# Altium integrated library Silicon Labs Clocks and Oscillators.IntLib: 678 symbols (part 16 of 45)
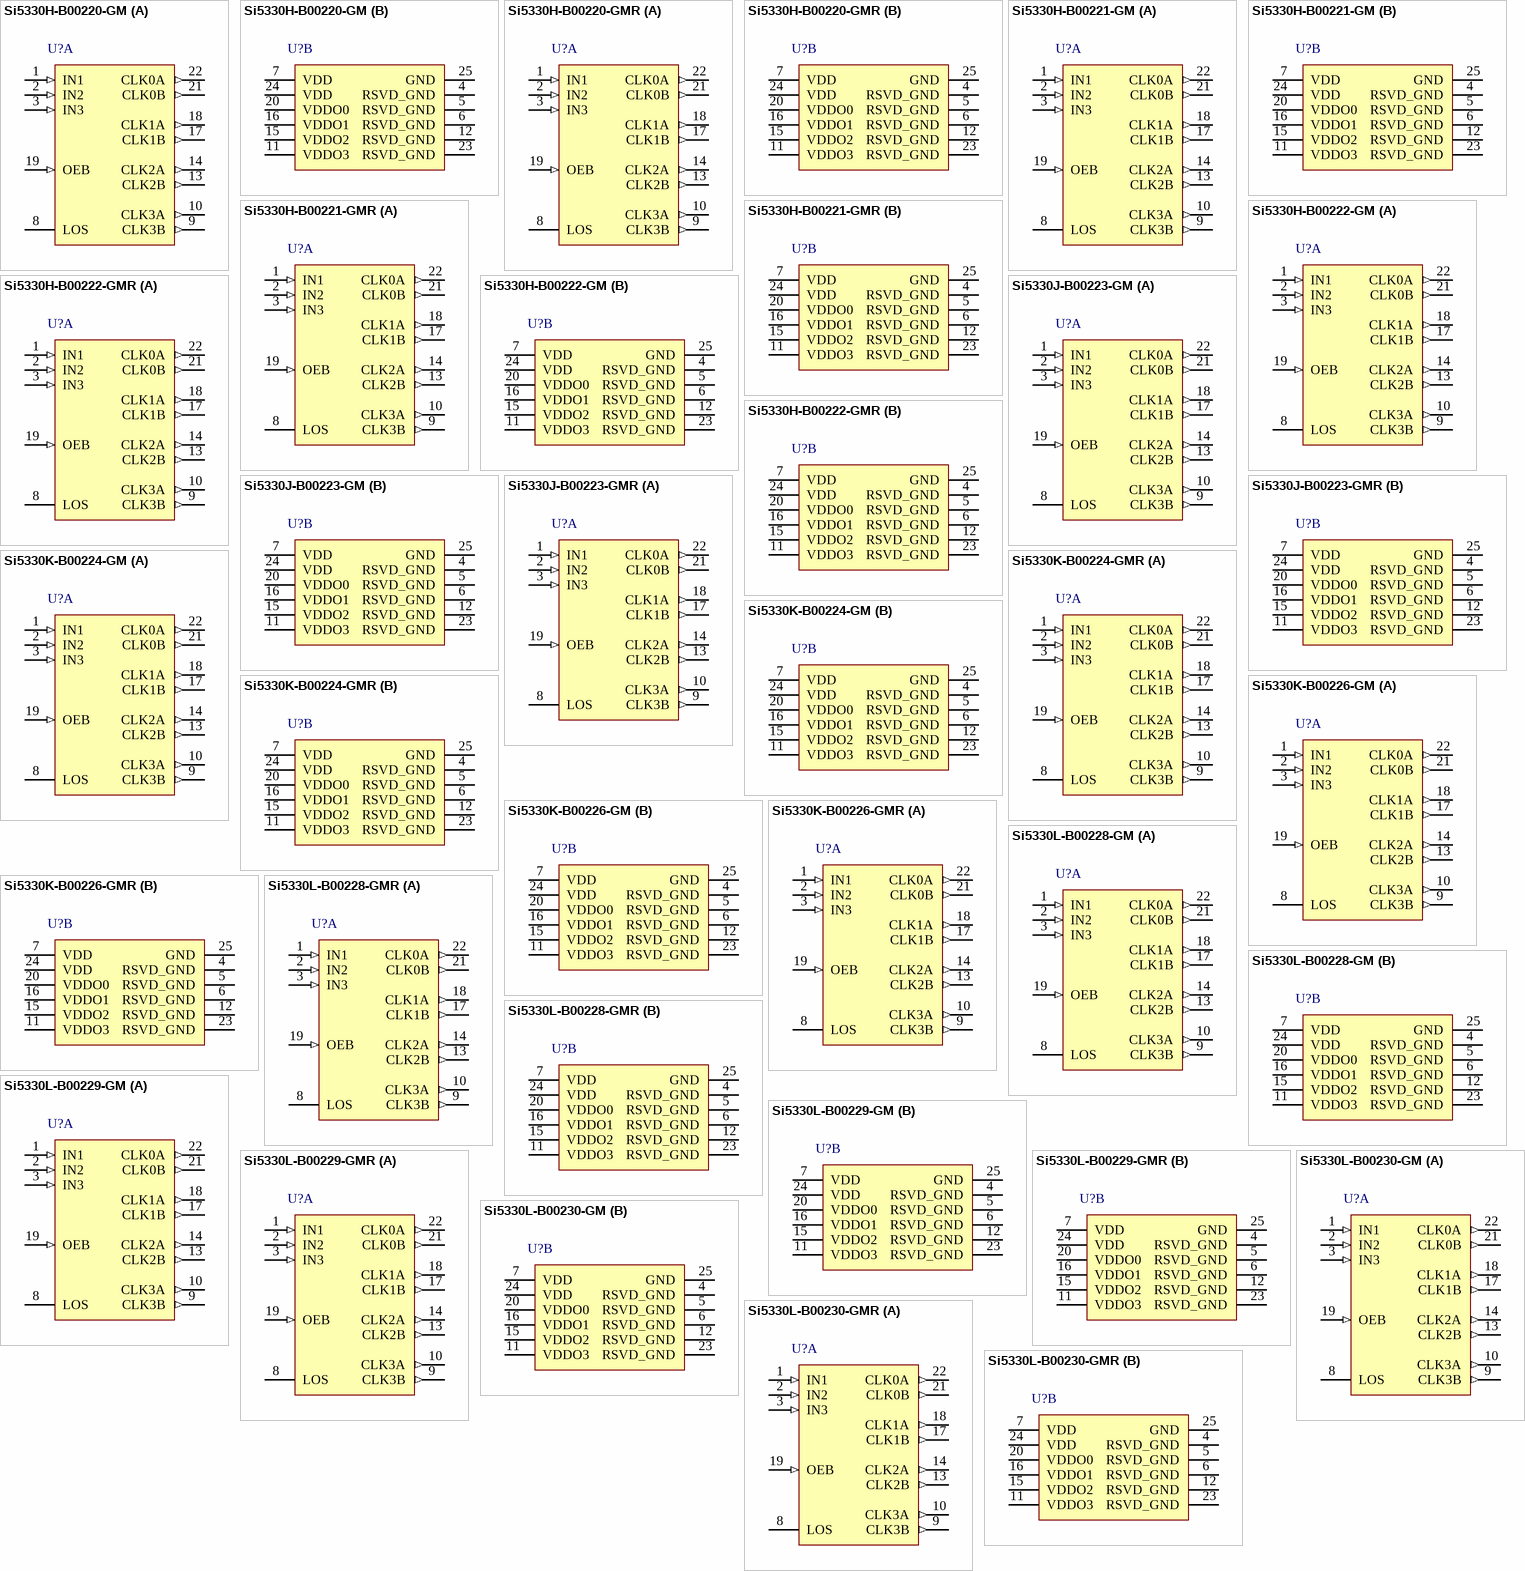
[diagram p59: symbols Si5330H-B00220-GM to Si5330L-B00230-GMR]

## Si5330J-B00223-GM
designator U?
1.5 V Low-Jitter, Low-Skew Clock Buffer / Level Translator, 5 to 350 MHz, -40 to 85 degC, 24-pin QFN; Manufacturer: Silicon Labs; PartNumber: Si5330J-B00223-GM; Frequency (MHz): 5 to 350; Output Format: HSTL; Sub-Family: Clock Buffers; DatasheetVersion: Rev. 1.1; PackageReference: QFN-24; PackageDescription: 24-Pin Quad-Flat No-Leads Package, Body 4 x 4 mm, Pitch 0.5 mm; Supplier 1: Digi-Key; Supplier Part Number 1: SI5330J-B00223-GM-ND; Supplier 2: Mouser; Supplier Part Number 2: 634-SI5330JB00223-GM; Mounting Technology: Surface Mount; Code_JEDEC: MO-220; Code_IPC: J-STD-020; ComponentLink1Description: Manufacturer URL; ComponentLink1URL: http://www.silabs.com/; ComponentLink2Description: Datasheet; ComponentLink2URL: http://www.silabs.com/Support%20Documents/TechnicalDocs/Si5330.pdf; ComponentLink3Description: Package Specification; ComponentLink3URL: http://www.silabs.com/Support%20Documents/TechnicalDocs/Si5330.pdf
footprint SLAB-QFN-24-2500x2500TP_N (QFN, 24-Leads, Body 4x4mm, Pitch 0.5mm, Thermal Pad 2.5x2.5mm, IPC Medium Density)
footprint SLAB-QFN-24-2500x2500TP_L (QFN, 24-Leads, Body 4x4mm, Pitch 0.5mm, Thermal Pad 2.5x2.5mm, IPC High Density)
footprint SLAB-QFN-24-2500x2500TP_M (QFN, 24-Leads, Body 4x4mm, Pitch 0.5mm, Thermal Pad 2.5x2.5mm, IPC Low Density)
part A pins: 1 IN1 (in), 2 IN2 (in), 3 IN3 (in), 8 LOS (oc) "Loss of Signal Indicator.", 9 CLK3B (out), 10 CLK3A (out), 13 CLK2B (out), 14 CLK2A (out), 17 CLK1B (out), 18 CLK1A (out), 19 OEB (in) "Output Enable.", 21 CLK0B (out), 22 CLK0A (out)
part B pins: 4 RSVD_GND (power) "Ground.", 5 RSVD_GND (power) "Ground.", 6 RSVD_GND (power) "Ground.", 7 VDD (power) "Core Supply Voltage.", 11 VDDO3 (power) "Output Clock Supply Voltage.", 12 RSVD_GND (power) "Ground.", 15 VDDO2 (power) "Output Clock Supply Voltage.", 16 VDDO1 (power) "Output Clock Supply Voltage.", 20 VDDO0 (power) "Output Clock Supply Voltage.", 23 RSVD_GND (power) "Ground.", 24 VDD (power) "Core Supply Voltage.", 25 GND (power) "Ground Pad."

## Si5330J-B00223-GMR
designator U?
1.5 V Low-Jitter, Low-Skew Clock Buffer / Level Translator, 5 to 350 MHz, -40 to 85 degC, 24-pin QFN, Tape and Reel; Manufacturer: Silicon Labs; PartNumber: Si5330J-B00223-GMR; Frequency (MHz): 5 to 350; Output Format: HSTL; Sub-Family: Clock Buffers; DatasheetVersion: Rev. 1.1; PackageReference: QFN-24; PackageDescription: 24-Pin Quad-Flat No-Leads Package, Body 4 x 4 mm, Pitch 0.5 mm; Supplier 1: Digi-Key; Supplier Part Number 1: SI5330J-B00223-GMR-ND; Supplier 2: Mouser; Supplier Part Number 2: 634-SI5330JB00223GMR; Packing: Tape and Reel; Mounting Technology: Surface Mount; Code_JEDEC: MO-220; Code_IPC: J-STD-020; ComponentLink1Description: Manufacturer URL; ComponentLink1URL: http://www.silabs.com/; ComponentLink2Description: Datasheet; ComponentLink2URL: http://www.silabs.com/Support%20Documents/TechnicalDocs/Si5330.pdf; ComponentLink3Description: Package Specification; ComponentLink3URL: http://www.silabs.com/Support%20Documents/TechnicalDocs/Si5330.pdf
footprint SLAB-QFN-24-2500x2500TP_N (QFN, 24-Leads, Body 4x4mm, Pitch 0.5mm, Thermal Pad 2.5x2.5mm, IPC Medium Density)
footprint SLAB-QFN-24-2500x2500TP_L (QFN, 24-Leads, Body 4x4mm, Pitch 0.5mm, Thermal Pad 2.5x2.5mm, IPC High Density)
footprint SLAB-QFN-24-2500x2500TP_M (QFN, 24-Leads, Body 4x4mm, Pitch 0.5mm, Thermal Pad 2.5x2.5mm, IPC Low Density)
part A pins: 1 IN1 (in), 2 IN2 (in), 3 IN3 (in), 8 LOS (oc) "Loss of Signal Indicator.", 9 CLK3B (out), 10 CLK3A (out), 13 CLK2B (out), 14 CLK2A (out), 17 CLK1B (out), 18 CLK1A (out), 19 OEB (in) "Output Enable.", 21 CLK0B (out), 22 CLK0A (out)
part B pins: 4 RSVD_GND (power) "Ground.", 5 RSVD_GND (power) "Ground.", 6 RSVD_GND (power) "Ground.", 7 VDD (power) "Core Supply Voltage.", 11 VDDO3 (power) "Output Clock Supply Voltage.", 12 RSVD_GND (power) "Ground.", 15 VDDO2 (power) "Output Clock Supply Voltage.", 16 VDDO1 (power) "Output Clock Supply Voltage.", 20 VDDO0 (power) "Output Clock Supply Voltage.", 23 RSVD_GND (power) "Ground.", 24 VDD (power) "Core Supply Voltage.", 25 GND (power) "Ground Pad."

## Si5330K-B00224-GM
designator U?
3.3 V Low-Jitter, Low-Skew Clock Buffer / Level Translator, 5 to 350 MHz, -40 to 85 degC, 24-pin QFN; Manufacturer: Silicon Labs; PartNumber: Si5330K-B00224-GM; Frequency (MHz): 5 to 350; Output Format: LVPECL; Sub-Family: Clock Buffers; DatasheetVersion: Rev. 1.1; PackageReference: QFN-24; PackageDescription: 24-Pin Quad-Flat No-Leads Package, Body 4 x 4 mm, Pitch 0.5 mm; Supplier 1: Digi-Key; Supplier Part Number 1: SI5330K-B00224-GM-ND; Supplier 2: Mouser; Supplier Part Number 2: 634-SI5330KB00224-GM; Mounting Technology: Surface Mount; Code_JEDEC: MO-220; Code_IPC: J-STD-020; ComponentLink1Description: Manufacturer URL; ComponentLink1URL: http://www.silabs.com/; ComponentLink2Description: Datasheet; ComponentLink2URL: http://www.silabs.com/Support%20Documents/TechnicalDocs/Si5330.pdf; ComponentLink3Description: Package Specification; ComponentLink3URL: http://www.silabs.com/Support%20Documents/TechnicalDocs/Si5330.pdf
footprint SLAB-QFN-24-2500x2500TP_N (QFN, 24-Leads, Body 4x4mm, Pitch 0.5mm, Thermal Pad 2.5x2.5mm, IPC Medium Density)
footprint SLAB-QFN-24-2500x2500TP_L (QFN, 24-Leads, Body 4x4mm, Pitch 0.5mm, Thermal Pad 2.5x2.5mm, IPC High Density)
footprint SLAB-QFN-24-2500x2500TP_M (QFN, 24-Leads, Body 4x4mm, Pitch 0.5mm, Thermal Pad 2.5x2.5mm, IPC Low Density)
part A pins: 1 IN1 (in), 2 IN2 (in), 3 IN3 (in), 8 LOS (oc) "Loss of Signal Indicator.", 9 CLK3B (out), 10 CLK3A (out), 13 CLK2B (out), 14 CLK2A (out), 17 CLK1B (out), 18 CLK1A (out), 19 OEB (in) "Output Enable.", 21 CLK0B (out), 22 CLK0A (out)
part B pins: 4 RSVD_GND (power) "Ground.", 5 RSVD_GND (power) "Ground.", 6 RSVD_GND (power) "Ground.", 7 VDD (power) "Core Supply Voltage.", 11 VDDO3 (power) "Output Clock Supply Voltage.", 12 RSVD_GND (power) "Ground.", 15 VDDO2 (power) "Output Clock Supply Voltage.", 16 VDDO1 (power) "Output Clock Supply Voltage.", 20 VDDO0 (power) "Output Clock Supply Voltage.", 23 RSVD_GND (power) "Ground.", 24 VDD (power) "Core Supply Voltage.", 25 GND (power) "Ground Pad."

## Si5330K-B00224-GMR
designator U?
3.3 V Low-Jitter, Low-Skew Clock Buffer / Level Translator, 5 to 350 MHz, -40 to 85 degC, 24-pin QFN, Tape and Reel; Manufacturer: Silicon Labs; PartNumber: Si5330K-B00224-GMR; Frequency (MHz): 5 to 350; Output Format: LVPECL; Sub-Family: Clock Buffers; DatasheetVersion: Rev. 1.1; PackageReference: QFN-24; PackageDescription: 24-Pin Quad-Flat No-Leads Package, Body 4 x 4 mm, Pitch 0.5 mm; Supplier 1: Digi-Key; Supplier Part Number 1: SI5330K-B00224-GMR-ND; Supplier 2: Mouser; Supplier Part Number 2: 634-SI5330KB00224GMR; Packing: Tape and Reel; Mounting Technology: Surface Mount; Code_JEDEC: MO-220; Code_IPC: J-STD-020; ComponentLink1Description: Manufacturer URL; ComponentLink1URL: http://www.silabs.com/; ComponentLink2Description: Datasheet; ComponentLink2URL: http://www.silabs.com/Support%20Documents/TechnicalDocs/Si5330.pdf; ComponentLink3Description: Package Specification; ComponentLink3URL: http://www.silabs.com/Support%20Documents/TechnicalDocs/Si5330.pdf
footprint SLAB-QFN-24-2500x2500TP_N (QFN, 24-Leads, Body 4x4mm, Pitch 0.5mm, Thermal Pad 2.5x2.5mm, IPC Medium Density)
footprint SLAB-QFN-24-2500x2500TP_L (QFN, 24-Leads, Body 4x4mm, Pitch 0.5mm, Thermal Pad 2.5x2.5mm, IPC High Density)
footprint SLAB-QFN-24-2500x2500TP_M (QFN, 24-Leads, Body 4x4mm, Pitch 0.5mm, Thermal Pad 2.5x2.5mm, IPC Low Density)
part A pins: 1 IN1 (in), 2 IN2 (in), 3 IN3 (in), 8 LOS (oc) "Loss of Signal Indicator.", 9 CLK3B (out), 10 CLK3A (out), 13 CLK2B (out), 14 CLK2A (out), 17 CLK1B (out), 18 CLK1A (out), 19 OEB (in) "Output Enable.", 21 CLK0B (out), 22 CLK0A (out)
part B pins: 4 RSVD_GND (power) "Ground.", 5 RSVD_GND (power) "Ground.", 6 RSVD_GND (power) "Ground.", 7 VDD (power) "Core Supply Voltage.", 11 VDDO3 (power) "Output Clock Supply Voltage.", 12 RSVD_GND (power) "Ground.", 15 VDDO2 (power) "Output Clock Supply Voltage.", 16 VDDO1 (power) "Output Clock Supply Voltage.", 20 VDDO0 (power) "Output Clock Supply Voltage.", 23 RSVD_GND (power) "Ground.", 24 VDD (power) "Core Supply Voltage.", 25 GND (power) "Ground Pad."

## Si5330K-B00226-GM
designator U?
2.5 V Low-Jitter, Low-Skew Clock Buffer / Level Translator, 5 to 350 MHz, -40 to 85 degC, 24-pin QFN; Manufacturer: Silicon Labs; PartNumber: Si5330K-B00226-GM; Frequency (MHz): 5 to 350; Output Format: LVPECL; Sub-Family: Clock Buffers; DatasheetVersion: Rev. 1.1; PackageReference: QFN-24; PackageDescription: 24-Pin Quad-Flat No-Leads Package, Body 4 x 4 mm, Pitch 0.5 mm; Supplier 1: Digi-Key; Supplier Part Number 1: SI5330K-B00226-GM-ND; Supplier 2: Mouser; Supplier Part Number 2: 634-SI5330KB00226-GM; Mounting Technology: Surface Mount; Code_JEDEC: MO-220; Code_IPC: J-STD-020; ComponentLink1Description: Manufacturer URL; ComponentLink1URL: http://www.silabs.com/; ComponentLink2Description: Datasheet; ComponentLink2URL: http://www.silabs.com/Support%20Documents/TechnicalDocs/Si5330.pdf; ComponentLink3Description: Package Specification; ComponentLink3URL: http://www.silabs.com/Support%20Documents/TechnicalDocs/Si5330.pdf
footprint SLAB-QFN-24-2500x2500TP_N (QFN, 24-Leads, Body 4x4mm, Pitch 0.5mm, Thermal Pad 2.5x2.5mm, IPC Medium Density)
footprint SLAB-QFN-24-2500x2500TP_L (QFN, 24-Leads, Body 4x4mm, Pitch 0.5mm, Thermal Pad 2.5x2.5mm, IPC High Density)
footprint SLAB-QFN-24-2500x2500TP_M (QFN, 24-Leads, Body 4x4mm, Pitch 0.5mm, Thermal Pad 2.5x2.5mm, IPC Low Density)
part A pins: 1 IN1 (in), 2 IN2 (in), 3 IN3 (in), 8 LOS (oc) "Loss of Signal Indicator.", 9 CLK3B (out), 10 CLK3A (out), 13 CLK2B (out), 14 CLK2A (out), 17 CLK1B (out), 18 CLK1A (out), 19 OEB (in) "Output Enable.", 21 CLK0B (out), 22 CLK0A (out)
part B pins: 4 RSVD_GND (power) "Ground.", 5 RSVD_GND (power) "Ground.", 6 RSVD_GND (power) "Ground.", 7 VDD (power) "Core Supply Voltage.", 11 VDDO3 (power) "Output Clock Supply Voltage.", 12 RSVD_GND (power) "Ground.", 15 VDDO2 (power) "Output Clock Supply Voltage.", 16 VDDO1 (power) "Output Clock Supply Voltage.", 20 VDDO0 (power) "Output Clock Supply Voltage.", 23 RSVD_GND (power) "Ground.", 24 VDD (power) "Core Supply Voltage.", 25 GND (power) "Ground Pad."

## Si5330K-B00226-GMR
designator U?
2.5 V Low-Jitter, Low-Skew Clock Buffer / Level Translator, 5 to 350 MHz, -40 to 85 degC, 24-pin QFN, Tape and Reel; Manufacturer: Silicon Labs; PartNumber: Si5330K-B00226-GMR; Frequency (MHz): 5 to 350; Output Format: LVPECL; Sub-Family: Clock Buffers; DatasheetVersion: Rev. 1.1; PackageReference: QFN-24; PackageDescription: 24-Pin Quad-Flat No-Leads Package, Body 4 x 4 mm, Pitch 0.5 mm; Supplier 1: Digi-Key; Supplier Part Number 1: SI5330K-B00226-GMR-ND; Supplier 2: Mouser; Supplier Part Number 2: 634-SI5330KB00226GMR; Packing: Tape and Reel; Mounting Technology: Surface Mount; Code_JEDEC: MO-220; Code_IPC: J-STD-020; ComponentLink1Description: Manufacturer URL; ComponentLink1URL: http://www.silabs.com/; ComponentLink2Description: Datasheet; ComponentLink2URL: http://www.silabs.com/Support%20Documents/TechnicalDocs/Si5330.pdf; ComponentLink3Description: Package Specification; ComponentLink3URL: http://www.silabs.com/Support%20Documents/TechnicalDocs/Si5330.pdf
footprint SLAB-QFN-24-2500x2500TP_N (QFN, 24-Leads, Body 4x4mm, Pitch 0.5mm, Thermal Pad 2.5x2.5mm, IPC Medium Density)
footprint SLAB-QFN-24-2500x2500TP_L (QFN, 24-Leads, Body 4x4mm, Pitch 0.5mm, Thermal Pad 2.5x2.5mm, IPC High Density)
footprint SLAB-QFN-24-2500x2500TP_M (QFN, 24-Leads, Body 4x4mm, Pitch 0.5mm, Thermal Pad 2.5x2.5mm, IPC Low Density)
part A pins: 1 IN1 (in), 2 IN2 (in), 3 IN3 (in), 8 LOS (oc) "Loss of Signal Indicator.", 9 CLK3B (out), 10 CLK3A (out), 13 CLK2B (out), 14 CLK2A (out), 17 CLK1B (out), 18 CLK1A (out), 19 OEB (in) "Output Enable.", 21 CLK0B (out), 22 CLK0A (out)
part B pins: 4 RSVD_GND (power) "Ground.", 5 RSVD_GND (power) "Ground.", 6 RSVD_GND (power) "Ground.", 7 VDD (power) "Core Supply Voltage.", 11 VDDO3 (power) "Output Clock Supply Voltage.", 12 RSVD_GND (power) "Ground.", 15 VDDO2 (power) "Output Clock Supply Voltage.", 16 VDDO1 (power) "Output Clock Supply Voltage.", 20 VDDO0 (power) "Output Clock Supply Voltage.", 23 RSVD_GND (power) "Ground.", 24 VDD (power) "Core Supply Voltage.", 25 GND (power) "Ground Pad."

## Si5330L-B00228-GM
designator U?
3.3 V Low-Jitter, Low-Skew Clock Buffer / Level Translator, 5 to 350 MHz, -40 to 85 degC, 24-pin QFN; Manufacturer: Silicon Labs; PartNumber: Si5330L-B00228-GM; Frequency (MHz): 5 to 350; Output Format: LVDS; Sub-Family: Clock Buffers; DatasheetVersion: Rev. 1.1; PackageReference: QFN-24; PackageDescription: 24-Pin Quad-Flat No-Leads Package, Body 4 x 4 mm, Pitch 0.5 mm; Supplier 1: Digi-Key; Supplier Part Number 1: SI5330L-B00228-GM-ND; Supplier 2: Mouser; Supplier Part Number 2: 634-SI5330LB00228-GM; Mounting Technology: Surface Mount; Code_JEDEC: MO-220; Code_IPC: J-STD-020; ComponentLink1Description: Manufacturer URL; ComponentLink1URL: http://www.silabs.com/; ComponentLink2Description: Datasheet; ComponentLink2URL: http://www.silabs.com/Support%20Documents/TechnicalDocs/Si5330.pdf; ComponentLink3Description: Package Specification; ComponentLink3URL: http://www.silabs.com/Support%20Documents/TechnicalDocs/Si5330.pdf
footprint SLAB-QFN-24-2500x2500TP_N (QFN, 24-Leads, Body 4x4mm, Pitch 0.5mm, Thermal Pad 2.5x2.5mm, IPC Medium Density)
footprint SLAB-QFN-24-2500x2500TP_L (QFN, 24-Leads, Body 4x4mm, Pitch 0.5mm, Thermal Pad 2.5x2.5mm, IPC High Density)
footprint SLAB-QFN-24-2500x2500TP_M (QFN, 24-Leads, Body 4x4mm, Pitch 0.5mm, Thermal Pad 2.5x2.5mm, IPC Low Density)
part A pins: 1 IN1 (in), 2 IN2 (in), 3 IN3 (in), 8 LOS (oc) "Loss of Signal Indicator.", 9 CLK3B (out), 10 CLK3A (out), 13 CLK2B (out), 14 CLK2A (out), 17 CLK1B (out), 18 CLK1A (out), 19 OEB (in) "Output Enable.", 21 CLK0B (out), 22 CLK0A (out)
part B pins: 4 RSVD_GND (power) "Ground.", 5 RSVD_GND (power) "Ground.", 6 RSVD_GND (power) "Ground.", 7 VDD (power) "Core Supply Voltage.", 11 VDDO3 (power) "Output Clock Supply Voltage.", 12 RSVD_GND (power) "Ground.", 15 VDDO2 (power) "Output Clock Supply Voltage.", 16 VDDO1 (power) "Output Clock Supply Voltage.", 20 VDDO0 (power) "Output Clock Supply Voltage.", 23 RSVD_GND (power) "Ground.", 24 VDD (power) "Core Supply Voltage.", 25 GND (power) "Ground Pad."

## Si5330L-B00228-GMR
designator U?
3.3 V Low-Jitter, Low-Skew Clock Buffer / Level Translator, 5 to 350 MHz, -40 to 85 degC, 24-pin QFN, Tape and Reel; Manufacturer: Silicon Labs; PartNumber: Si5330L-B00228-GMR; Frequency (MHz): 5 to 350; Output Format: LVDS; Sub-Family: Clock Buffers; DatasheetVersion: Rev. 1.1; PackageReference: QFN-24; PackageDescription: 24-Pin Quad-Flat No-Leads Package, Body 4 x 4 mm, Pitch 0.5 mm; Supplier 1: Digi-Key; Supplier Part Number 1: SI5330L-B00228-GMR-ND; Supplier 2: Mouser; Supplier Part Number 2: 634-SI5330LB00228GMR; Packing: Tape and Reel; Mounting Technology: Surface Mount; Code_JEDEC: MO-220; Code_IPC: J-STD-020; ComponentLink1Description: Manufacturer URL; ComponentLink1URL: http://www.silabs.com/; ComponentLink2Description: Datasheet; ComponentLink2URL: http://www.silabs.com/Support%20Documents/TechnicalDocs/Si5330.pdf; ComponentLink3Description: Package Specification; ComponentLink3URL: http://www.silabs.com/Support%20Documents/TechnicalDocs/Si5330.pdf
footprint SLAB-QFN-24-2500x2500TP_N (QFN, 24-Leads, Body 4x4mm, Pitch 0.5mm, Thermal Pad 2.5x2.5mm, IPC Medium Density)
footprint SLAB-QFN-24-2500x2500TP_L (QFN, 24-Leads, Body 4x4mm, Pitch 0.5mm, Thermal Pad 2.5x2.5mm, IPC High Density)
footprint SLAB-QFN-24-2500x2500TP_M (QFN, 24-Leads, Body 4x4mm, Pitch 0.5mm, Thermal Pad 2.5x2.5mm, IPC Low Density)
part A pins: 1 IN1 (in), 2 IN2 (in), 3 IN3 (in), 8 LOS (oc) "Loss of Signal Indicator.", 9 CLK3B (out), 10 CLK3A (out), 13 CLK2B (out), 14 CLK2A (out), 17 CLK1B (out), 18 CLK1A (out), 19 OEB (in) "Output Enable.", 21 CLK0B (out), 22 CLK0A (out)
part B pins: 4 RSVD_GND (power) "Ground.", 5 RSVD_GND (power) "Ground.", 6 RSVD_GND (power) "Ground.", 7 VDD (power) "Core Supply Voltage.", 11 VDDO3 (power) "Output Clock Supply Voltage.", 12 RSVD_GND (power) "Ground.", 15 VDDO2 (power) "Output Clock Supply Voltage.", 16 VDDO1 (power) "Output Clock Supply Voltage.", 20 VDDO0 (power) "Output Clock Supply Voltage.", 23 RSVD_GND (power) "Ground.", 24 VDD (power) "Core Supply Voltage.", 25 GND (power) "Ground Pad."

## Si5330L-B00229-GM
designator U?
2.5 V Low-Jitter, Low-Skew Clock Buffer / Level Translator, 5 to 350 MHz, -40 to 85 degC, 24-pin QFN; Manufacturer: Silicon Labs; PartNumber: Si5330L-B00229-GM; Frequency (MHz): 5 to 350; Output Format: LVDS; Sub-Family: Clock Buffers; DatasheetVersion: Rev. 1.1; PackageReference: QFN-24; PackageDescription: 24-Pin Quad-Flat No-Leads Package, Body 4 x 4 mm, Pitch 0.5 mm; Supplier 1: Digi-Key; Supplier Part Number 1: SI5330L-B00229-GM-ND; Supplier 2: Mouser; Supplier Part Number 2: 634-SI5330LB00229-GM; Mounting Technology: Surface Mount; Code_JEDEC: MO-220; Code_IPC: J-STD-020; ComponentLink1Description: Manufacturer URL; ComponentLink1URL: http://www.silabs.com/; ComponentLink2Description: Datasheet; ComponentLink2URL: http://www.silabs.com/Support%20Documents/TechnicalDocs/Si5330.pdf; ComponentLink3Description: Package Specification; ComponentLink3URL: http://www.silabs.com/Support%20Documents/TechnicalDocs/Si5330.pdf
footprint SLAB-QFN-24-2500x2500TP_N (QFN, 24-Leads, Body 4x4mm, Pitch 0.5mm, Thermal Pad 2.5x2.5mm, IPC Medium Density)
footprint SLAB-QFN-24-2500x2500TP_L (QFN, 24-Leads, Body 4x4mm, Pitch 0.5mm, Thermal Pad 2.5x2.5mm, IPC High Density)
footprint SLAB-QFN-24-2500x2500TP_M (QFN, 24-Leads, Body 4x4mm, Pitch 0.5mm, Thermal Pad 2.5x2.5mm, IPC Low Density)
part A pins: 1 IN1 (in), 2 IN2 (in), 3 IN3 (in), 8 LOS (oc) "Loss of Signal Indicator.", 9 CLK3B (out), 10 CLK3A (out), 13 CLK2B (out), 14 CLK2A (out), 17 CLK1B (out), 18 CLK1A (out), 19 OEB (in) "Output Enable.", 21 CLK0B (out), 22 CLK0A (out)
part B pins: 4 RSVD_GND (power) "Ground.", 5 RSVD_GND (power) "Ground.", 6 RSVD_GND (power) "Ground.", 7 VDD (power) "Core Supply Voltage.", 11 VDDO3 (power) "Output Clock Supply Voltage.", 12 RSVD_GND (power) "Ground.", 15 VDDO2 (power) "Output Clock Supply Voltage.", 16 VDDO1 (power) "Output Clock Supply Voltage.", 20 VDDO0 (power) "Output Clock Supply Voltage.", 23 RSVD_GND (power) "Ground.", 24 VDD (power) "Core Supply Voltage.", 25 GND (power) "Ground Pad."

## Si5330L-B00229-GMR
designator U?
2.5 V Low-Jitter, Low-Skew Clock Buffer / Level Translator, 5 to 350 MHz, -40 to 85 degC, 24-pin QFN, Tape and Reel; Manufacturer: Silicon Labs; PartNumber: Si5330L-B00229-GMR; Frequency (MHz): 5 to 350; Output Format: LVDS; Sub-Family: Clock Buffers; DatasheetVersion: Rev. 1.1; PackageReference: QFN-24; PackageDescription: 24-Pin Quad-Flat No-Leads Package, Body 4 x 4 mm, Pitch 0.5 mm; Supplier 1: Digi-Key; Supplier Part Number 1: SI5330L-B00229-GMR-ND; Supplier 2: Mouser; Supplier Part Number 2: 634-SI5330LB00229GMR; Packing: Tape and Reel; Mounting Technology: Surface Mount; Code_JEDEC: MO-220; Code_IPC: J-STD-020; ComponentLink1Description: Manufacturer URL; ComponentLink1URL: http://www.silabs.com/; ComponentLink2Description: Datasheet; ComponentLink2URL: http://www.silabs.com/Support%20Documents/TechnicalDocs/Si5330.pdf; ComponentLink3Description: Package Specification; ComponentLink3URL: http://www.silabs.com/Support%20Documents/TechnicalDocs/Si5330.pdf
footprint SLAB-QFN-24-2500x2500TP_N (QFN, 24-Leads, Body 4x4mm, Pitch 0.5mm, Thermal Pad 2.5x2.5mm, IPC Medium Density)
footprint SLAB-QFN-24-2500x2500TP_L (QFN, 24-Leads, Body 4x4mm, Pitch 0.5mm, Thermal Pad 2.5x2.5mm, IPC High Density)
footprint SLAB-QFN-24-2500x2500TP_M (QFN, 24-Leads, Body 4x4mm, Pitch 0.5mm, Thermal Pad 2.5x2.5mm, IPC Low Density)
part A pins: 1 IN1 (in), 2 IN2 (in), 3 IN3 (in), 8 LOS (oc) "Loss of Signal Indicator.", 9 CLK3B (out), 10 CLK3A (out), 13 CLK2B (out), 14 CLK2A (out), 17 CLK1B (out), 18 CLK1A (out), 19 OEB (in) "Output Enable.", 21 CLK0B (out), 22 CLK0A (out)
part B pins: 4 RSVD_GND (power) "Ground.", 5 RSVD_GND (power) "Ground.", 6 RSVD_GND (power) "Ground.", 7 VDD (power) "Core Supply Voltage.", 11 VDDO3 (power) "Output Clock Supply Voltage.", 12 RSVD_GND (power) "Ground.", 15 VDDO2 (power) "Output Clock Supply Voltage.", 16 VDDO1 (power) "Output Clock Supply Voltage.", 20 VDDO0 (power) "Output Clock Supply Voltage.", 23 RSVD_GND (power) "Ground.", 24 VDD (power) "Core Supply Voltage.", 25 GND (power) "Ground Pad."

## Si5330L-B00230-GM
designator U?
1.8 V Low-Jitter, Low-Skew Clock Buffer / Level Translator, 5 to 350 MHz, -40 to 85 degC, 24-pin QFN; Manufacturer: Silicon Labs; PartNumber: Si5330L-B00230-GM; Frequency (MHz): 5 to 350; Output Format: LVDS; Sub-Family: Clock Buffers; DatasheetVersion: Rev. 1.1; PackageReference: QFN-24; PackageDescription: 24-Pin Quad-Flat No-Leads Package, Body 4 x 4 mm, Pitch 0.5 mm; Supplier 1: Digi-Key; Supplier Part Number 1: SI5330L-B00230-GM-ND; Supplier 2: Mouser; Supplier Part Number 2: 634-SI5330LB00230-GM; Mounting Technology: Surface Mount; Code_JEDEC: MO-220; Code_IPC: J-STD-020; ComponentLink1Description: Manufacturer URL; ComponentLink1URL: http://www.silabs.com/; ComponentLink2Description: Datasheet; ComponentLink2URL: http://www.silabs.com/Support%20Documents/TechnicalDocs/Si5330.pdf; ComponentLink3Description: Package Specification; ComponentLink3URL: http://www.silabs.com/Support%20Documents/TechnicalDocs/Si5330.pdf
footprint SLAB-QFN-24-2500x2500TP_N (QFN, 24-Leads, Body 4x4mm, Pitch 0.5mm, Thermal Pad 2.5x2.5mm, IPC Medium Density)
footprint SLAB-QFN-24-2500x2500TP_L (QFN, 24-Leads, Body 4x4mm, Pitch 0.5mm, Thermal Pad 2.5x2.5mm, IPC High Density)
footprint SLAB-QFN-24-2500x2500TP_M (QFN, 24-Leads, Body 4x4mm, Pitch 0.5mm, Thermal Pad 2.5x2.5mm, IPC Low Density)
part A pins: 1 IN1 (in), 2 IN2 (in), 3 IN3 (in), 8 LOS (oc) "Loss of Signal Indicator.", 9 CLK3B (out), 10 CLK3A (out), 13 CLK2B (out), 14 CLK2A (out), 17 CLK1B (out), 18 CLK1A (out), 19 OEB (in) "Output Enable.", 21 CLK0B (out), 22 CLK0A (out)
part B pins: 4 RSVD_GND (power) "Ground.", 5 RSVD_GND (power) "Ground.", 6 RSVD_GND (power) "Ground.", 7 VDD (power) "Core Supply Voltage.", 11 VDDO3 (power) "Output Clock Supply Voltage.", 12 RSVD_GND (power) "Ground.", 15 VDDO2 (power) "Output Clock Supply Voltage.", 16 VDDO1 (power) "Output Clock Supply Voltage.", 20 VDDO0 (power) "Output Clock Supply Voltage.", 23 RSVD_GND (power) "Ground.", 24 VDD (power) "Core Supply Voltage.", 25 GND (power) "Ground Pad."

## Si5330L-B00230-GMR
designator U?
1.8 V Low-Jitter, Low-Skew Clock Buffer / Level Translator, 5 to 350 MHz, -40 to 85 degC, 24-pin QFN, Tape and Reel; Manufacturer: Silicon Labs; PartNumber: Si5330L-B00230-GMR; Frequency (MHz): 5 to 350; Output Format: LVDS; Sub-Family: Clock Buffers; DatasheetVersion: Rev. 1.1; PackageReference: QFN-24; PackageDescription: 24-Pin Quad-Flat No-Leads Package, Body 4 x 4 mm, Pitch 0.5 mm; Supplier 1: Digi-Key; Supplier Part Number 1: SI5330L-B00230-GMR-ND; Supplier 2: Mouser; Supplier Part Number 2: 634-SI5330LB00230GMR; Packing: Tape and Reel; Mounting Technology: Surface Mount; Code_JEDEC: MO-220; Code_IPC: J-STD-020; ComponentLink1Description: Manufacturer URL; ComponentLink1URL: http://www.silabs.com/; ComponentLink2Description: Datasheet; ComponentLink2URL: http://www.silabs.com/Support%20Documents/TechnicalDocs/Si5330.pdf; ComponentLink3Description: Package Specification; ComponentLink3URL: http://www.silabs.com/Support%20Documents/TechnicalDocs/Si5330.pdf
footprint SLAB-QFN-24-2500x2500TP_N (QFN, 24-Leads, Body 4x4mm, Pitch 0.5mm, Thermal Pad 2.5x2.5mm, IPC Medium Density)
footprint SLAB-QFN-24-2500x2500TP_L (QFN, 24-Leads, Body 4x4mm, Pitch 0.5mm, Thermal Pad 2.5x2.5mm, IPC High Density)
footprint SLAB-QFN-24-2500x2500TP_M (QFN, 24-Leads, Body 4x4mm, Pitch 0.5mm, Thermal Pad 2.5x2.5mm, IPC Low Density)
part A pins: 1 IN1 (in), 2 IN2 (in), 3 IN3 (in), 8 LOS (oc) "Loss of Signal Indicator.", 9 CLK3B (out), 10 CLK3A (out), 13 CLK2B (out), 14 CLK2A (out), 17 CLK1B (out), 18 CLK1A (out), 19 OEB (in) "Output Enable.", 21 CLK0B (out), 22 CLK0A (out)
part B pins: 4 RSVD_GND (power) "Ground.", 5 RSVD_GND (power) "Ground.", 6 RSVD_GND (power) "Ground.", 7 VDD (power) "Core Supply Voltage.", 11 VDDO3 (power) "Output Clock Supply Voltage.", 12 RSVD_GND (power) "Ground.", 15 VDDO2 (power) "Output Clock Supply Voltage.", 16 VDDO1 (power) "Output Clock Supply Voltage.", 20 VDDO0 (power) "Output Clock Supply Voltage.", 23 RSVD_GND (power) "Ground.", 24 VDD (power) "Core Supply Voltage.", 25 GND (power) "Ground Pad."

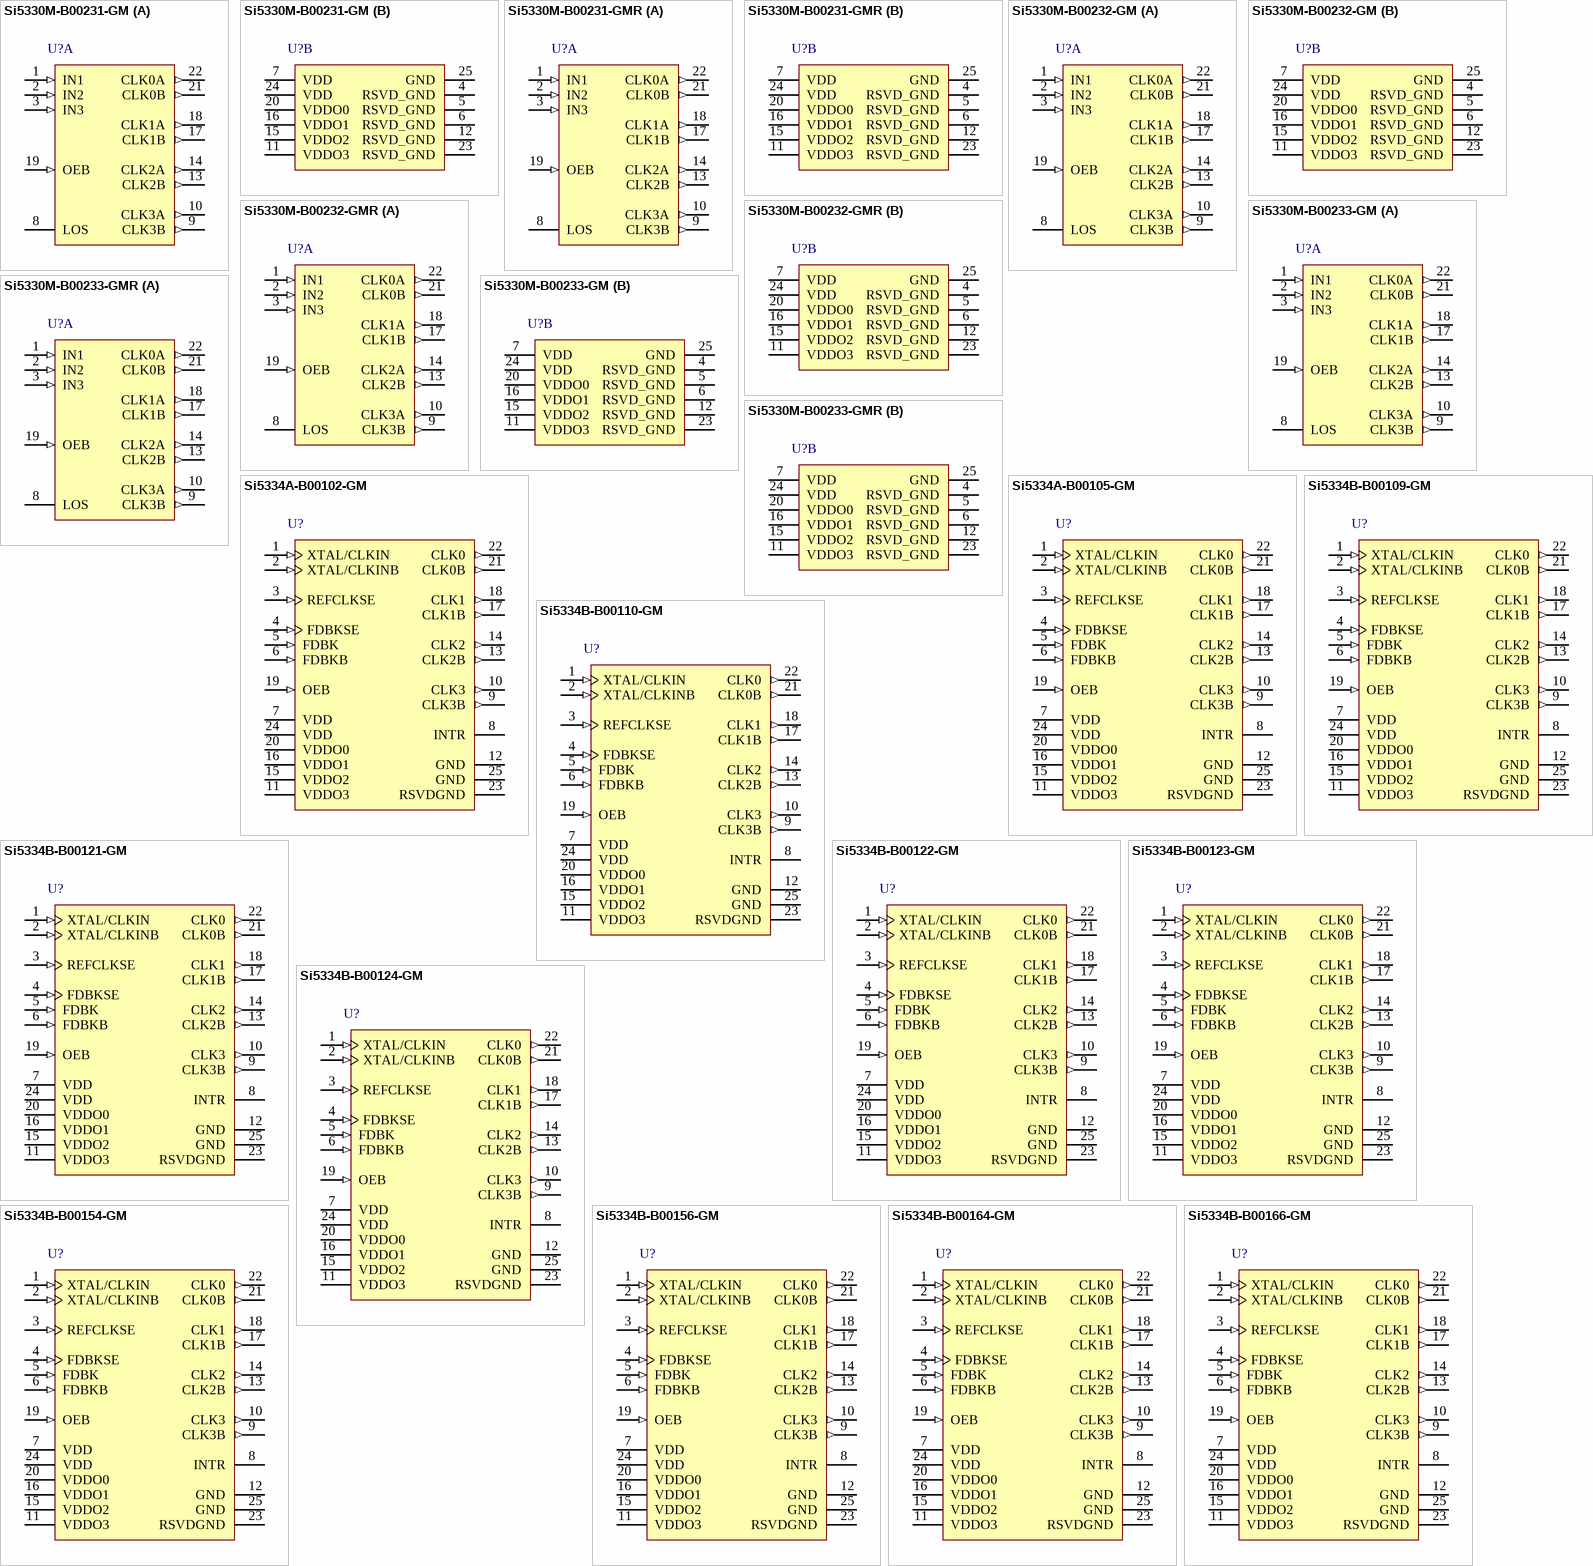
[diagram p18: symbols Si5330M-B00231-GM to Si5334B-B00166-GM]

## Si5330M-B00231-GM
designator U?
3.3 V Low-Jitter, Low-Skew Clock Buffer / Level Translator, 5 to 250 MHz, -40 to 85 degC, 24-pin QFN; Manufacturer: Silicon Labs; PartNumber: Si5330M-B00231-GM; Frequency (MHz): 5 to 250; Output Format: HCSL; Sub-Family: Clock Buffers; DatasheetVersion: Rev. 1.1; PackageReference: QFN-24; PackageDescription: 24-Pin Quad-Flat No-Leads Package, Body 4 x 4 mm, Pitch 0.5 mm; Supplier 1: Digi-Key; Supplier Part Number 1: SI5330M-B00231-GM-ND; Supplier 2: Mouser; Supplier Part Number 2: 634-SI5330MB00231-GM; Mounting Technology: Surface Mount; Code_JEDEC: MO-220; Code_IPC: J-STD-020; ComponentLink1Description: Manufacturer URL; ComponentLink1URL: http://www.silabs.com/; ComponentLink2Description: Datasheet; ComponentLink2URL: http://www.silabs.com/Support%20Documents/TechnicalDocs/Si5330.pdf; ComponentLink3Description: Package Specification; ComponentLink3URL: http://www.silabs.com/Support%20Documents/TechnicalDocs/Si5330.pdf
footprint SLAB-QFN-24-2500x2500TP_N (QFN, 24-Leads, Body 4x4mm, Pitch 0.5mm, Thermal Pad 2.5x2.5mm, IPC Medium Density)
footprint SLAB-QFN-24-2500x2500TP_L (QFN, 24-Leads, Body 4x4mm, Pitch 0.5mm, Thermal Pad 2.5x2.5mm, IPC High Density)
footprint SLAB-QFN-24-2500x2500TP_M (QFN, 24-Leads, Body 4x4mm, Pitch 0.5mm, Thermal Pad 2.5x2.5mm, IPC Low Density)
part A pins: 1 IN1 (in), 2 IN2 (in), 3 IN3 (in), 8 LOS (oc) "Loss of Signal Indicator.", 9 CLK3B (out), 10 CLK3A (out), 13 CLK2B (out), 14 CLK2A (out), 17 CLK1B (out), 18 CLK1A (out), 19 OEB (in) "Output Enable.", 21 CLK0B (out), 22 CLK0A (out)
part B pins: 4 RSVD_GND (power) "Ground.", 5 RSVD_GND (power) "Ground.", 6 RSVD_GND (power) "Ground.", 7 VDD (power) "Core Supply Voltage.", 11 VDDO3 (power) "Output Clock Supply Voltage.", 12 RSVD_GND (power) "Ground.", 15 VDDO2 (power) "Output Clock Supply Voltage.", 16 VDDO1 (power) "Output Clock Supply Voltage.", 20 VDDO0 (power) "Output Clock Supply Voltage.", 23 RSVD_GND (power) "Ground.", 24 VDD (power) "Core Supply Voltage.", 25 GND (power) "Ground Pad."

## Si5330M-B00231-GMR
designator U?
3.3 V Low-Jitter, Low-Skew Clock Buffer / Level Translator, 5 to 250 MHz, -40 to 85 degC, 24-pin QFN, Tape and Reel; Manufacturer: Silicon Labs; PartNumber: Si5330M-B00231-GMR; Frequency (MHz): 5 to 250; Output Format: HCSL; Sub-Family: Clock Buffers; DatasheetVersion: Rev. 1.1; PackageReference: QFN-24; PackageDescription: 24-Pin Quad-Flat No-Leads Package, Body 4 x 4 mm, Pitch 0.5 mm; Supplier 1: Digi-Key; Supplier Part Number 1: SI5330M-B00231-GMR-ND; Supplier 2: Mouser; Supplier Part Number 2: 634-SI5330MB00231GMR; Packing: Tape and Reel; Mounting Technology: Surface Mount; Code_JEDEC: MO-220; Code_IPC: J-STD-020; ComponentLink1Description: Manufacturer URL; ComponentLink1URL: http://www.silabs.com/; ComponentLink2Description: Datasheet; ComponentLink2URL: http://www.silabs.com/Support%20Documents/TechnicalDocs/Si5330.pdf; ComponentLink3Description: Package Specification; ComponentLink3URL: http://www.silabs.com/Support%20Documents/TechnicalDocs/Si5330.pdf
footprint SLAB-QFN-24-2500x2500TP_N (QFN, 24-Leads, Body 4x4mm, Pitch 0.5mm, Thermal Pad 2.5x2.5mm, IPC Medium Density)
footprint SLAB-QFN-24-2500x2500TP_L (QFN, 24-Leads, Body 4x4mm, Pitch 0.5mm, Thermal Pad 2.5x2.5mm, IPC High Density)
footprint SLAB-QFN-24-2500x2500TP_M (QFN, 24-Leads, Body 4x4mm, Pitch 0.5mm, Thermal Pad 2.5x2.5mm, IPC Low Density)
part A pins: 1 IN1 (in), 2 IN2 (in), 3 IN3 (in), 8 LOS (oc) "Loss of Signal Indicator.", 9 CLK3B (out), 10 CLK3A (out), 13 CLK2B (out), 14 CLK2A (out), 17 CLK1B (out), 18 CLK1A (out), 19 OEB (in) "Output Enable.", 21 CLK0B (out), 22 CLK0A (out)
part B pins: 4 RSVD_GND (power) "Ground.", 5 RSVD_GND (power) "Ground.", 6 RSVD_GND (power) "Ground.", 7 VDD (power) "Core Supply Voltage.", 11 VDDO3 (power) "Output Clock Supply Voltage.", 12 RSVD_GND (power) "Ground.", 15 VDDO2 (power) "Output Clock Supply Voltage.", 16 VDDO1 (power) "Output Clock Supply Voltage.", 20 VDDO0 (power) "Output Clock Supply Voltage.", 23 RSVD_GND (power) "Ground.", 24 VDD (power) "Core Supply Voltage.", 25 GND (power) "Ground Pad."

## Si5330M-B00232-GM
designator U?
2.5 V Low-Jitter, Low-Skew Clock Buffer / Level Translator, 5 to 250 MHz, -40 to 85 degC, 24-pin QFN; Manufacturer: Silicon Labs; PartNumber: Si5330M-B00232-GM; Frequency (MHz): 5 to 250; Output Format: HCSL; Sub-Family: Clock Buffers; DatasheetVersion: Rev. 1.1; PackageReference: QFN-24; PackageDescription: 24-Pin Quad-Flat No-Leads Package, Body 4 x 4 mm, Pitch 0.5 mm; Supplier 1: Digi-Key; Supplier Part Number 1: SI5330M-B00232-GM-ND; Supplier 2: Mouser; Supplier Part Number 2: 634-SI5330MB00232-GM; Mounting Technology: Surface Mount; Code_JEDEC: MO-220; Code_IPC: J-STD-020; ComponentLink1Description: Manufacturer URL; ComponentLink1URL: http://www.silabs.com/; ComponentLink2Description: Datasheet; ComponentLink2URL: http://www.silabs.com/Support%20Documents/TechnicalDocs/Si5330.pdf; ComponentLink3Description: Package Specification; ComponentLink3URL: http://www.silabs.com/Support%20Documents/TechnicalDocs/Si5330.pdf
footprint SLAB-QFN-24-2500x2500TP_N (QFN, 24-Leads, Body 4x4mm, Pitch 0.5mm, Thermal Pad 2.5x2.5mm, IPC Medium Density)
footprint SLAB-QFN-24-2500x2500TP_L (QFN, 24-Leads, Body 4x4mm, Pitch 0.5mm, Thermal Pad 2.5x2.5mm, IPC High Density)
footprint SLAB-QFN-24-2500x2500TP_M (QFN, 24-Leads, Body 4x4mm, Pitch 0.5mm, Thermal Pad 2.5x2.5mm, IPC Low Density)
part A pins: 1 IN1 (in), 2 IN2 (in), 3 IN3 (in), 8 LOS (oc) "Loss of Signal Indicator.", 9 CLK3B (out), 10 CLK3A (out), 13 CLK2B (out), 14 CLK2A (out), 17 CLK1B (out), 18 CLK1A (out), 19 OEB (in) "Output Enable.", 21 CLK0B (out), 22 CLK0A (out)
part B pins: 4 RSVD_GND (power) "Ground.", 5 RSVD_GND (power) "Ground.", 6 RSVD_GND (power) "Ground.", 7 VDD (power) "Core Supply Voltage.", 11 VDDO3 (power) "Output Clock Supply Voltage.", 12 RSVD_GND (power) "Ground.", 15 VDDO2 (power) "Output Clock Supply Voltage.", 16 VDDO1 (power) "Output Clock Supply Voltage.", 20 VDDO0 (power) "Output Clock Supply Voltage.", 23 RSVD_GND (power) "Ground.", 24 VDD (power) "Core Supply Voltage.", 25 GND (power) "Ground Pad."

## Si5330M-B00232-GMR
designator U?
2.5 V Low-Jitter, Low-Skew Clock Buffer / Level Translator, 5 to 250 MHz, -40 to 85 degC, 24-pin QFN, Tape and Reel; Manufacturer: Silicon Labs; PartNumber: Si5330M-B00232-GMR; Frequency (MHz): 5 to 250; Output Format: HCSL; Sub-Family: Clock Buffers; DatasheetVersion: Rev. 1.1; PackageReference: QFN-24; PackageDescription: 24-Pin Quad-Flat No-Leads Package, Body 4 x 4 mm, Pitch 0.5 mm; Supplier 1: Digi-Key; Supplier Part Number 1: SI5330M-B00232-GMR-ND; Supplier 2: Mouser; Supplier Part Number 2: 634-SI5330MB00232GMR; Packing: Tape and Reel; Mounting Technology: Surface Mount; Code_JEDEC: MO-220; Code_IPC: J-STD-020; ComponentLink1Description: Manufacturer URL; ComponentLink1URL: http://www.silabs.com/; ComponentLink2Description: Datasheet; ComponentLink2URL: http://www.silabs.com/Support%20Documents/TechnicalDocs/Si5330.pdf; ComponentLink3Description: Package Specification; ComponentLink3URL: http://www.silabs.com/Support%20Documents/TechnicalDocs/Si5330.pdf
footprint SLAB-QFN-24-2500x2500TP_N (QFN, 24-Leads, Body 4x4mm, Pitch 0.5mm, Thermal Pad 2.5x2.5mm, IPC Medium Density)
footprint SLAB-QFN-24-2500x2500TP_L (QFN, 24-Leads, Body 4x4mm, Pitch 0.5mm, Thermal Pad 2.5x2.5mm, IPC High Density)
footprint SLAB-QFN-24-2500x2500TP_M (QFN, 24-Leads, Body 4x4mm, Pitch 0.5mm, Thermal Pad 2.5x2.5mm, IPC Low Density)
part A pins: 1 IN1 (in), 2 IN2 (in), 3 IN3 (in), 8 LOS (oc) "Loss of Signal Indicator.", 9 CLK3B (out), 10 CLK3A (out), 13 CLK2B (out), 14 CLK2A (out), 17 CLK1B (out), 18 CLK1A (out), 19 OEB (in) "Output Enable.", 21 CLK0B (out), 22 CLK0A (out)
part B pins: 4 RSVD_GND (power) "Ground.", 5 RSVD_GND (power) "Ground.", 6 RSVD_GND (power) "Ground.", 7 VDD (power) "Core Supply Voltage.", 11 VDDO3 (power) "Output Clock Supply Voltage.", 12 RSVD_GND (power) "Ground.", 15 VDDO2 (power) "Output Clock Supply Voltage.", 16 VDDO1 (power) "Output Clock Supply Voltage.", 20 VDDO0 (power) "Output Clock Supply Voltage.", 23 RSVD_GND (power) "Ground.", 24 VDD (power) "Core Supply Voltage.", 25 GND (power) "Ground Pad."

## Si5330M-B00233-GM
designator U?
1.8 V Low-Jitter, Low-Skew Clock Buffer / Level Translator, 5 to 250 MHz, -40 to 85 degC, 24-pin QFN; Manufacturer: Silicon Labs; PartNumber: Si5330M-B00233-GM; Frequency (MHz): 5 to 250; Output Format: HCSL; Sub-Family: Clock Buffers; DatasheetVersion: Rev. 1.1; PackageReference: QFN-24; PackageDescription: 24-Pin Quad-Flat No-Leads Package, Body 4 x 4 mm, Pitch 0.5 mm; Supplier 1: Digi-Key; Supplier Part Number 1: SI5330M-B00233-GM-ND; Supplier 2: Mouser; Supplier Part Number 2: 634-SI5330MB00233-GM; Mounting Technology: Surface Mount; Code_JEDEC: MO-220; Code_IPC: J-STD-020; ComponentLink1Description: Manufacturer URL; ComponentLink1URL: http://www.silabs.com/; ComponentLink2Description: Datasheet; ComponentLink2URL: http://www.silabs.com/Support%20Documents/TechnicalDocs/Si5330.pdf; ComponentLink3Description: Package Specification; ComponentLink3URL: http://www.silabs.com/Support%20Documents/TechnicalDocs/Si5330.pdf
footprint SLAB-QFN-24-2500x2500TP_N (QFN, 24-Leads, Body 4x4mm, Pitch 0.5mm, Thermal Pad 2.5x2.5mm, IPC Medium Density)
footprint SLAB-QFN-24-2500x2500TP_L (QFN, 24-Leads, Body 4x4mm, Pitch 0.5mm, Thermal Pad 2.5x2.5mm, IPC High Density)
footprint SLAB-QFN-24-2500x2500TP_M (QFN, 24-Leads, Body 4x4mm, Pitch 0.5mm, Thermal Pad 2.5x2.5mm, IPC Low Density)
part A pins: 1 IN1 (in), 2 IN2 (in), 3 IN3 (in), 8 LOS (oc) "Loss of Signal Indicator.", 9 CLK3B (out), 10 CLK3A (out), 13 CLK2B (out), 14 CLK2A (out), 17 CLK1B (out), 18 CLK1A (out), 19 OEB (in) "Output Enable.", 21 CLK0B (out), 22 CLK0A (out)
part B pins: 4 RSVD_GND (power) "Ground.", 5 RSVD_GND (power) "Ground.", 6 RSVD_GND (power) "Ground.", 7 VDD (power) "Core Supply Voltage.", 11 VDDO3 (power) "Output Clock Supply Voltage.", 12 RSVD_GND (power) "Ground.", 15 VDDO2 (power) "Output Clock Supply Voltage.", 16 VDDO1 (power) "Output Clock Supply Voltage.", 20 VDDO0 (power) "Output Clock Supply Voltage.", 23 RSVD_GND (power) "Ground.", 24 VDD (power) "Core Supply Voltage.", 25 GND (power) "Ground Pad."

## Si5330M-B00233-GMR
designator U?
1.8 V Low-Jitter, Low-Skew Clock Buffer / Level Translator, 5 to 250 MHz, -40 to 85 degC, 24-pin QFN, Tape and Reel; Manufacturer: Silicon Labs; PartNumber: Si5330M-B00233-GMR; Frequency (MHz): 5 to 250; Output Format: HCSL; Sub-Family: Clock Buffers; DatasheetVersion: Rev. 1.1; PackageReference: QFN-24; PackageDescription: 24-Pin Quad-Flat No-Leads Package, Body 4 x 4 mm, Pitch 0.5 mm; Supplier 1: Digi-Key; Supplier Part Number 1: SI5330M-B00233-GMR-ND; Supplier 2: Mouser; Supplier Part Number 2: 634-SI5330MB00233GMR; Packing: Tape and Reel; Mounting Technology: Surface Mount; Code_JEDEC: MO-220; Code_IPC: J-STD-020; ComponentLink1Description: Manufacturer URL; ComponentLink1URL: http://www.silabs.com/; ComponentLink2Description: Datasheet; ComponentLink2URL: http://www.silabs.com/Support%20Documents/TechnicalDocs/Si5330.pdf; ComponentLink3Description: Package Specification; ComponentLink3URL: http://www.silabs.com/Support%20Documents/TechnicalDocs/Si5330.pdf
footprint SLAB-QFN-24-2500x2500TP_N (QFN, 24-Leads, Body 4x4mm, Pitch 0.5mm, Thermal Pad 2.5x2.5mm, IPC Medium Density)
footprint SLAB-QFN-24-2500x2500TP_L (QFN, 24-Leads, Body 4x4mm, Pitch 0.5mm, Thermal Pad 2.5x2.5mm, IPC High Density)
footprint SLAB-QFN-24-2500x2500TP_M (QFN, 24-Leads, Body 4x4mm, Pitch 0.5mm, Thermal Pad 2.5x2.5mm, IPC Low Density)
part A pins: 1 IN1 (in), 2 IN2 (in), 3 IN3 (in), 8 LOS (oc) "Loss of Signal Indicator.", 9 CLK3B (out), 10 CLK3A (out), 13 CLK2B (out), 14 CLK2A (out), 17 CLK1B (out), 18 CLK1A (out), 19 OEB (in) "Output Enable.", 21 CLK0B (out), 22 CLK0A (out)
part B pins: 4 RSVD_GND (power) "Ground.", 5 RSVD_GND (power) "Ground.", 6 RSVD_GND (power) "Ground.", 7 VDD (power) "Core Supply Voltage.", 11 VDDO3 (power) "Output Clock Supply Voltage.", 12 RSVD_GND (power) "Ground.", 15 VDDO2 (power) "Output Clock Supply Voltage.", 16 VDDO1 (power) "Output Clock Supply Voltage.", 20 VDDO0 (power) "Output Clock Supply Voltage.", 23 RSVD_GND (power) "Ground.", 24 VDD (power) "Core Supply Voltage.", 25 GND (power) "Ground Pad."

## Si5334A-B00102-GM
designator U?
Pin-Controlled Any-Frequency, Any-Output Quad Clock Generator, 1.8 / 2.5 / 3.3 V, 0.16 to 710 MHz Output, -40 to 85 degC, 24-pin QFN; Manufacturer: Silicon Labs; PartNumber: Si5334A-B00102-GM; Output Format: LVPECL; LVDS; LVCMOS; HCSL; SSTL; HSTL; Reference Inputs: 1; VDD: 1.8 V; 2.5 V; 3.3 V; Sub-Family: Clock Generators; DatasheetVersion: Rev. 1.1; PackageReference: QFN-24; PackageDescription: 24-Pin Quad-Flat No-Leads Package, Body 4 x 4 mm, Pitch 0.5 mm; Output Frequency (MHz): 0.16 to 710; Mounting Technology: Surface Mount; Code_JEDEC: MO-220; Code_IPC: J-STD-020; ComponentLink1Description: Manufacturer URL; ComponentLink1URL: http://www.silabs.com/; ComponentLink2Description: Datasheet; ComponentLink2URL: http://www.silabs.com/Support%20Documents/TechnicalDocs/Si5334.pdf; ComponentLink3Description: Package Specification; ComponentLink3URL: http://www.silabs.com/Support%20Documents/TechnicalDocs/Si5330.pdf
footprint SLAB-QFN-24-2500x2500TP_N (QFN, 24-Leads, Body 4x4mm, Pitch 0.5mm, Thermal Pad 2.5x2.5mm, IPC Medium Density)
footprint SLAB-QFN-24-2500x2500TP_L (QFN, 24-Leads, Body 4x4mm, Pitch 0.5mm, Thermal Pad 2.5x2.5mm, IPC High Density)
footprint SLAB-QFN-24-2500x2500TP_M (QFN, 24-Leads, Body 4x4mm, Pitch 0.5mm, Thermal Pad 2.5x2.5mm, IPC Low Density)
pins: 1 XTAL/CLKIN (in) "These pins are used as the main differential clock input or as the XTAL input.", 2 XTAL/CLKINB (in) "These pins are used as the main differential clock input or as the XTAL input.", 3 REFCLKSE (in) "High impedance input for single-ended clock signals such as CMOS. The input should be dc-coupled.", 4 FDBKSE (in) "High Impedance input for single-ended clock signals, such as CMOS, when the zero delay mode of operation is required. This input should be dc-coupled.", 5 FDBK (in) "These pins form a differential input for feedback clock signals when a zero delay mode of operation is in effect. Always AC couple into these pins. When not is use leave FDBK unconnected and connect FDBKB to ground.", 6 FDBKB (in) "These pins form a differential input for feedback clock signals when a zero delay mode of operation is in effect. Always AC couple into these pins. When not is use leave FDBK unconnected and connect FDBKB to ground.", 7 VDD (power) "Core Supply Voltage", 8 INTR (oc), 9 CLK3B (out) "Output Clock B for Channel 3", 10 CLK3 (out), 11 VDDO3 (power) "Output Clock Supply Voltage", 12 GND (power) "Ground.", 13 CLK2B (out) "Output Clock B for Channel 2", 14 CLK2 (out), 15 VDDO2 (power) "Output Clock Supply Voltage.", 16 VDDO1 (power) "Output Clock Supply Voltage.", 17 CLK1B (out) "Output Clock B for Channel 1", 18 CLK1 (out), 19 OEB (in) "Output Enable Low", 20 VDDO0 (power) "Output Clock Supply Voltage.", 21 CLK0B (out) "Output Clock B for Channel 0", 22 CLK0 (out), 23 RSVDGND (power) "Ground.", 24 VDD (power) "Core Supply Voltage.", 25 GND (power) "Ground Pad."

## Si5334A-B00105-GM
designator U?
Pin-Controlled Any-Frequency, Any-Output Quad Clock Generator, 1.8 / 2.5 / 3.3 V, 0.16 to 710 MHz Output, -40 to 85 degC, 24-pin QFN; Manufacturer: Silicon Labs; PartNumber: Si5334A-B00105-GM; Output Format: LVPECL; LVDS; LVCMOS; HCSL; SSTL; HSTL; Reference Inputs: 1; VDD: 1.8 V; 2.5 V; 3.3 V; Sub-Family: Clock Generators; DatasheetVersion: Rev. 1.1; PackageReference: QFN-24; PackageDescription: 24-Pin Quad-Flat No-Leads Package, Body 4 x 4 mm, Pitch 0.5 mm; Output Frequency (MHz): 0.16 to 710; Mounting Technology: Surface Mount; Code_JEDEC: MO-220; Code_IPC: J-STD-020; ComponentLink1Description: Manufacturer URL; ComponentLink1URL: http://www.silabs.com/; ComponentLink2Description: Datasheet; ComponentLink2URL: http://www.silabs.com/Support%20Documents/TechnicalDocs/Si5334.pdf; ComponentLink3Description: Package Specification; ComponentLink3URL: http://www.silabs.com/Support%20Documents/TechnicalDocs/Si5330.pdf
footprint SLAB-QFN-24-2500x2500TP_N (QFN, 24-Leads, Body 4x4mm, Pitch 0.5mm, Thermal Pad 2.5x2.5mm, IPC Medium Density)
footprint SLAB-QFN-24-2500x2500TP_L (QFN, 24-Leads, Body 4x4mm, Pitch 0.5mm, Thermal Pad 2.5x2.5mm, IPC High Density)
footprint SLAB-QFN-24-2500x2500TP_M (QFN, 24-Leads, Body 4x4mm, Pitch 0.5mm, Thermal Pad 2.5x2.5mm, IPC Low Density)
pins: 1 XTAL/CLKIN (in) "These pins are used as the main differential clock input or as the XTAL input.", 2 XTAL/CLKINB (in) "These pins are used as the main differential clock input or as the XTAL input.", 3 REFCLKSE (in) "High impedance input for single-ended clock signals such as CMOS. The input should be dc-coupled.", 4 FDBKSE (in) "High Impedance input for single-ended clock signals, such as CMOS, when the zero delay mode of operation is required. This input should be dc-coupled.", 5 FDBK (in) "These pins form a differential input for feedback clock signals when a zero delay mode of operation is in effect. Always AC couple into these pins. When not is use leave FDBK unconnected and connect FDBKB to ground.", 6 FDBKB (in) "These pins form a differential input for feedback clock signals when a zero delay mode of operation is in effect. Always AC couple into these pins. When not is use leave FDBK unconnected and connect FDBKB to ground.", 7 VDD (power) "Core Supply Voltage", 8 INTR (oc), 9 CLK3B (out) "Output Clock B for Channel 3", 10 CLK3 (out), 11 VDDO3 (power) "Output Clock Supply Voltage", 12 GND (power) "Ground.", 13 CLK2B (out) "Output Clock B for Channel 2", 14 CLK2 (out), 15 VDDO2 (power) "Output Clock Supply Voltage.", 16 VDDO1 (power) "Output Clock Supply Voltage.", 17 CLK1B (out) "Output Clock B for Channel 1", 18 CLK1 (out), 19 OEB (in) "Output Enable Low", 20 VDDO0 (power) "Output Clock Supply Voltage.", 21 CLK0B (out) "Output Clock B for Channel 0", 22 CLK0 (out), 23 RSVDGND (power) "Ground.", 24 VDD (power) "Core Supply Voltage.", 25 GND (power) "Ground Pad."

## Si5334B-B00109-GM
designator U?
Pin-Controlled Any-Frequency, Any-Output Quad Clock Generator, 1.8 / 2.5 / 3.3 V, 0.16 to 350 MHz Output, -40 to 85 degC, 24-pin QFN; Manufacturer: Silicon Labs; PartNumber: Si5334B-B00109-GM; Output Format: LVPECL; LVDS; LVCMOS; HCSL; SSTL; HSTL; Reference Inputs: 1; VDD: 1.8 V; 2.5 V; 3.3 V; Sub-Family: Clock Generators; DatasheetVersion: Rev. 1.1; PackageReference: QFN-24; PackageDescription: 24-Pin Quad-Flat No-Leads Package, Body 4 x 4 mm, Pitch 0.5 mm; Output Frequency (MHz): 0.16 to 350; Mounting Technology: Surface Mount; Code_JEDEC: MO-220; Code_IPC: J-STD-020; ComponentLink1Description: Manufacturer URL; ComponentLink1URL: http://www.silabs.com/; ComponentLink2Description: Datasheet; ComponentLink2URL: http://www.silabs.com/Support%20Documents/TechnicalDocs/Si5334.pdf; ComponentLink3Description: Package Specification; ComponentLink3URL: http://www.silabs.com/Support%20Documents/TechnicalDocs/Si5330.pdf
footprint SLAB-QFN-24-2500x2500TP_N (QFN, 24-Leads, Body 4x4mm, Pitch 0.5mm, Thermal Pad 2.5x2.5mm, IPC Medium Density)
footprint SLAB-QFN-24-2500x2500TP_L (QFN, 24-Leads, Body 4x4mm, Pitch 0.5mm, Thermal Pad 2.5x2.5mm, IPC High Density)
footprint SLAB-QFN-24-2500x2500TP_M (QFN, 24-Leads, Body 4x4mm, Pitch 0.5mm, Thermal Pad 2.5x2.5mm, IPC Low Density)
pins: 1 XTAL/CLKIN (in) "These pins are used as the main differential clock input or as the XTAL input.", 2 XTAL/CLKINB (in) "These pins are used as the main differential clock input or as the XTAL input.", 3 REFCLKSE (in) "High impedance input for single-ended clock signals such as CMOS. The input should be dc-coupled.", 4 FDBKSE (in) "High Impedance input for single-ended clock signals, such as CMOS, when the zero delay mode of operation is required. This input should be dc-coupled.", 5 FDBK (in) "These pins form a differential input for feedback clock signals when a zero delay mode of operation is in effect. Always AC couple into these pins. When not is use leave FDBK unconnected and connect FDBKB to ground.", 6 FDBKB (in) "These pins form a differential input for feedback clock signals when a zero delay mode of operation is in effect. Always AC couple into these pins. When not is use leave FDBK unconnected and connect FDBKB to ground.", 7 VDD (power) "Core Supply Voltage", 8 INTR (oc), 9 CLK3B (out) "Output Clock B for Channel 3", 10 CLK3 (out), 11 VDDO3 (power) "Output Clock Supply Voltage", 12 GND (power) "Ground.", 13 CLK2B (out) "Output Clock B for Channel 2", 14 CLK2 (out), 15 VDDO2 (power) "Output Clock Supply Voltage.", 16 VDDO1 (power) "Output Clock Supply Voltage.", 17 CLK1B (out) "Output Clock B for Channel 1", 18 CLK1 (out), 19 OEB (in) "Output Enable Low", 20 VDDO0 (power) "Output Clock Supply Voltage.", 21 CLK0B (out) "Output Clock B for Channel 0", 22 CLK0 (out), 23 RSVDGND (power) "Ground.", 24 VDD (power) "Core Supply Voltage.", 25 GND (power) "Ground Pad."

## Si5334B-B00110-GM
designator U?
Pin-Controlled Any-Frequency, Any-Output Quad Clock Generator, 1.8 / 2.5 / 3.3 V, 0.16 to 350 MHz Output, -40 to 85 degC, 24-pin QFN; Manufacturer: Silicon Labs; PartNumber: Si5334B-B00110-GM; Output Format: LVPECL; LVDS; LVCMOS; HCSL; SSTL; HSTL; Reference Inputs: 1; VDD: 1.8 V; 2.5 V; 3.3 V; Sub-Family: Clock Generators; DatasheetVersion: Rev. 1.1; PackageReference: QFN-24; PackageDescription: 24-Pin Quad-Flat No-Leads Package, Body 4 x 4 mm, Pitch 0.5 mm; Output Frequency (MHz): 0.16 to 350; Mounting Technology: Surface Mount; Code_JEDEC: MO-220; Code_IPC: J-STD-020; ComponentLink1Description: Manufacturer URL; ComponentLink1URL: http://www.silabs.com/; ComponentLink2Description: Datasheet; ComponentLink2URL: http://www.silabs.com/Support%20Documents/TechnicalDocs/Si5334.pdf; ComponentLink3Description: Package Specification; ComponentLink3URL: http://www.silabs.com/Support%20Documents/TechnicalDocs/Si5330.pdf
footprint SLAB-QFN-24-2500x2500TP_N (QFN, 24-Leads, Body 4x4mm, Pitch 0.5mm, Thermal Pad 2.5x2.5mm, IPC Medium Density)
footprint SLAB-QFN-24-2500x2500TP_L (QFN, 24-Leads, Body 4x4mm, Pitch 0.5mm, Thermal Pad 2.5x2.5mm, IPC High Density)
footprint SLAB-QFN-24-2500x2500TP_M (QFN, 24-Leads, Body 4x4mm, Pitch 0.5mm, Thermal Pad 2.5x2.5mm, IPC Low Density)
pins: 1 XTAL/CLKIN (in) "These pins are used as the main differential clock input or as the XTAL input.", 2 XTAL/CLKINB (in) "These pins are used as the main differential clock input or as the XTAL input.", 3 REFCLKSE (in) "High impedance input for single-ended clock signals such as CMOS. The input should be dc-coupled.", 4 FDBKSE (in) "High Impedance input for single-ended clock signals, such as CMOS, when the zero delay mode of operation is required. This input should be dc-coupled.", 5 FDBK (in) "These pins form a differential input for feedback clock signals when a zero delay mode of operation is in effect. Always AC couple into these pins. When not is use leave FDBK unconnected and connect FDBKB to ground.", 6 FDBKB (in) "These pins form a differential input for feedback clock signals when a zero delay mode of operation is in effect. Always AC couple into these pins. When not is use leave FDBK unconnected and connect FDBKB to ground.", 7 VDD (power) "Core Supply Voltage", 8 INTR (oc), 9 CLK3B (out) "Output Clock B for Channel 3", 10 CLK3 (out), 11 VDDO3 (power) "Output Clock Supply Voltage", 12 GND (power) "Ground.", 13 CLK2B (out) "Output Clock B for Channel 2", 14 CLK2 (out), 15 VDDO2 (power) "Output Clock Supply Voltage.", 16 VDDO1 (power) "Output Clock Supply Voltage.", 17 CLK1B (out) "Output Clock B for Channel 1", 18 CLK1 (out), 19 OEB (in) "Output Enable Low", 20 VDDO0 (power) "Output Clock Supply Voltage.", 21 CLK0B (out) "Output Clock B for Channel 0", 22 CLK0 (out), 23 RSVDGND (power) "Ground.", 24 VDD (power) "Core Supply Voltage.", 25 GND (power) "Ground Pad."